# Altium schematic symbol library HeliLib.SchLib: 6 symbols
Pins are listed as number, name and electrical type; pins without a type are passive.

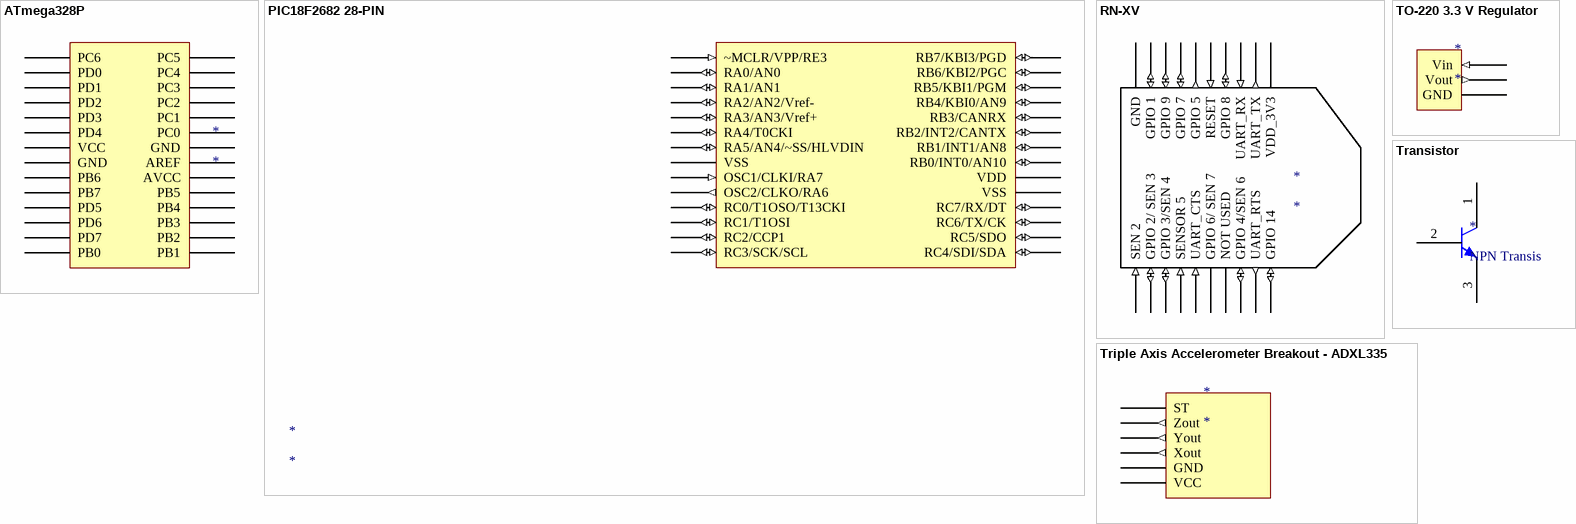
[diagram p0: symbols ATmega328P to Triple Axis Accelerometer Breakout - ADXL335]

## ATmega328P
designator *
pins: 1 PC6, 2 PD0, 3 PD1, 4 PD2, 5 PD3, ?1 PD4, ?2 VCC, ?3 GND, ?4 PB6, ?5 PB7, ?6 PD5, ?7 PD6, ?8 PD7, ?9 PB0, ?10 PB1, ?11 PB2, ?12 PB3, ?13 PB4, ?14 PB5, ?15 AVCC, ?16 AREF, ?17 GND, ?18 PC0, ?19 PC1, ?20 PC2, ?21 PC3, ?22 PC4, ?23 PC5

## PIC18F2682 28-PIN
designator *
pins: 1 ~MCLR/VPP/RE3 (in), 2 RA0/AN0 (io), 3 RA1/AN1 (io), 4 RA2/AN2/Vref- (io), 5 RA3/AN3/Vref+ (io), 6 RA4/T0CKI (io), 7 RA5/AN4/~SS/HLVDIN (io), 8 VSS (power), 9 OSC1/CLKI/RA7 (in), 10 OSC2/CLKO/RA6 (out), 11 RC0/T1OSO/T13CKI (io), 12 RC1/T1OSI (io), 13 RC2/CCP1 (io), 14 RC3/SCK/SCL (io), 15 RC4/SDI/SDA (io), 16 RC5/SDO (io), 17 RC6/TX/CK (io), 18 RC7/RX/DT (io), 19 VSS (power), 20 VDD (power), 21 RB0/INT0/AN10 (io), 22 RB1/INT1/AN8 (io), 23 RB2/INT2/CANTX (io), 24 RB3/CANRX (io), 25 RB4/KBI0/AN9 (io), 26 RB5/KBI1/PGM (io), 27 RB6/KBI2/PGC (io), 28 RB7/KBI3/PGD (io)

## RN-XV
designator *
pins: 1 VDD_3V3 (power), 2 UART_TX (out), 3 UART_RX (in), 4 GPIO 8 (io), 5 RESET (in), 6 GPIO 5 (out), 7 GPIO 7 (io), 8 GPIO 9 (io), 9 GPIO 1 (io), 10 GND (power), 11 GPIO 14 (io), 12 UART_RTS (out), 13 GPIO 4/SEN 6 (io), 14 NOT USED, 15 GPIO 6/ SEN 7 (power), 16 UART_CTS (in), 17 SENSOR 5 (in), 18 GPIO 3/SEN 4 (io), 19 GPIO 2/ SEN 3 (io), 20 SEN 2 (in)

## TO-220 3.3 V Regulator
designator *
pins: 1 GND, 2 Vout (out), 3 Vin (in)

## Transistor
designator *, comment NPN Transis
footprint SOT95P237X112-3N (SOT23, 3-Leads, Body 3.0x2.6mm (max), Pitch 0.95mm, IPC Medium Density)
pins: 1, 2, 3

## Triple Axis Accelerometer Breakout - ADXL335
designator *
pins: 2 ST, 8 Zout (out), 10 Yout (out), 12 Xout (out), 13 GND, 14 VCC